# EAGLE library part PCM1865DBTR (library Texas Instruments)
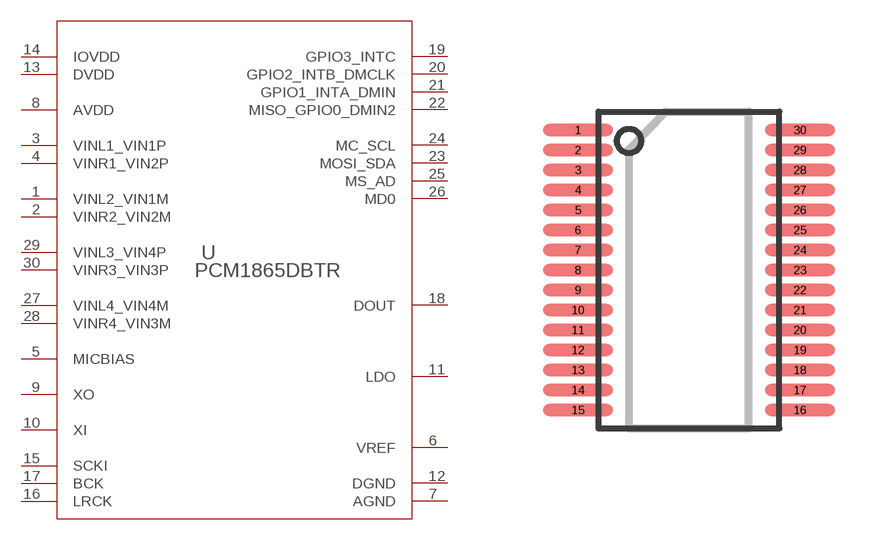
[diagram p10: symbol with the pads of DBT0030A_N; footprint DBT0030A_N]

Designator prefix U

## PCM1865DBTR (ALTERNATEPARTNUMBER: PCM1865DBT; APPLICATION_BUILDNUMBER: *; COMPTYPE: IC; MANUFACTURER: Texas Instruments; MOUNTTYPE: SMT; PACKAGEREFERENCE: DBT0030A; PARTNUMBER: PCM1865DBTR; PIN_COUNT: 30; REFDES: RefDes; ROHS: Y; TYPE: TYPE; VALUE: Value)  [DBT0030A_N]
1  VINL2_VIN1M  in
2  VINR2_VIN2M  in
3  VINL1_VIN1P  in
4  VINR1_VIN2P  in
5  MICBIAS  out
6  VREF  pas
7  AGND  pwr
8  AVDD  pwr
9  XO  pas
10  XI  pas
11  LDO  out
12  DGND  pwr
13  DVDD  pwr
14  IOVDD  pwr
15  SCKI  in
16  LRCK
17  BCK
18  DOUT  out
19  GPIO3_INTC
20  GPIO2_INTB_DMCLK
21  GPIO1_INTA_DMIN
22  MISO_GPIO0_DMIN2
23  MOSI_SDA
24  MC_SCL  in
25  MS_AD  in
26  MD0  in
27  VINL4_VIN4M  in
28  VINR4_VIN3M  in
29  VINL3_VIN4P  in
30  VINR3_VIN3P  in

## Footprint DBT0030A_N (pad centres in mm)
smd 1.753 x 0.305: 1 -2.775,3.5; 2 -2.775,3; 3 -2.775,2.5; 4 -2.775,2; 5 -2.775,1.5; 6 -2.775,1; 7 -2.775,0.5; 8 -2.775,0; 9 -2.775,-0.5; 10 -2.775,-1; 11 -2.775,-1.5; 12 -2.775,-2; 13 -2.775,-2.5; 14 -2.775,-3; 15 -2.775,-3.5; 16 2.775,-3.5; 17 2.775,-3; 18 2.775,-2.5; 19 2.775,-2; 20 2.775,-1.5; 21 2.775,-1; 22 2.775,-0.5; 23 2.775,0; 24 2.775,0.5; 25 2.775,1; 26 2.775,1.5; 27 2.775,2; 28 2.775,2.5; 29 2.775,3; 30 2.775,3.5